# EAGLE library part CC1350F128RGZ (library CC1350)
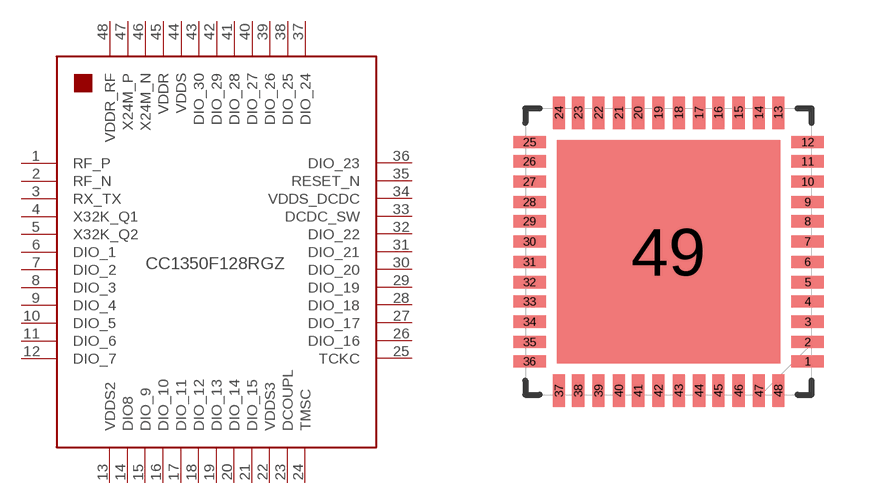
[diagram p0: symbol with the pads of QFN50P700X700X100-49N; footprint QFN50P700X700X100-49N]

Designator prefix -

## CC1350F128RGZ  [QFN50P700X700X100-49N]
1  RF_P
2  RF_N
3  RX_TX
4  X32K_Q1
5  X32K_Q2
6  DIO_1
7  DIO_2
8  DIO_3
9  DIO_4
10  DIO_5
11  DIO_6
12  DIO_7
13  VDDS2
14  DIO8
15  DIO_9
16  DIO_10
17  DIO_11
18  DIO_12
19  DIO_13
20  DIO_14
21  DIO_15
22  VDDS3
23  DCOUPL
24  TMSC
25  TCKC
26  DIO_16
27  DIO_17
28  DIO_18
29  DIO_19
30  DIO_20
31  DIO_21
32  DIO_22
33  DCDC_SW
34  VDDS_DCDC
35  RESET_N
36  DIO_23
37  DIO_24
38  DIO_25
39  DIO_26
40  DIO_27
41  DIO_28
42  DIO_29
43  DIO_30
44  VDDS
45  VDDR
46  X24M_N
47  X24M_P
48  VDDR_RF

## Footprint QFN50P700X700X100-49N (pad centres in mm)
smd 0.813 x 0.305: 1 2.21,-2.743; 2 2.21,-2.261; 3 2.21,-1.753; 4 2.21,-1.245; 5 2.21,-0.762; 6 2.21,-0.254; 7 2.21,0.254; 8 2.21,0.762; 9 2.21,1.245; 10 2.21,1.753; 11 2.21,2.261; 12 2.21,2.743; 25 -4.75,2.743; 26 -4.75,2.261; 27 -4.75,1.753; 28 -4.75,1.245; 29 -4.75,0.762; 30 -4.75,0.254; 31 -4.75,-0.254; 32 -4.75,-0.762; 33 -4.75,-1.245; 34 -4.75,-1.753; 35 -4.75,-2.261; 36 -4.75,-2.743
smd 0.305 x 0.813: 13 1.473,3.48; 14 0.991,3.48; 15 0.483,3.48; 16 -0.025,3.48; 17 -0.508,3.48; 18 -1.016,3.48; 19 -1.524,3.48; 20 -2.032,3.48; 21 -2.515,3.48; 22 -3.023,3.48; 23 -3.531,3.48; 24 -4.013,3.48; 37 -4.013,-3.48; 38 -3.531,-3.48; 39 -3.023,-3.48; 40 -2.515,-3.48; 41 -2.032,-3.48; 42 -1.524,-3.48; 43 -1.016,-3.48; 44 -0.508,-3.48; 45 -0.025,-3.48; 46 0.483,-3.48; 47 0.991,-3.48; 48 1.473,-3.48
smd 5.588 x 5.588: 49 -1.27,0